# EAGLE library part D-SUB-25H (library Projekt)
Multicomp 5504F1 - Series
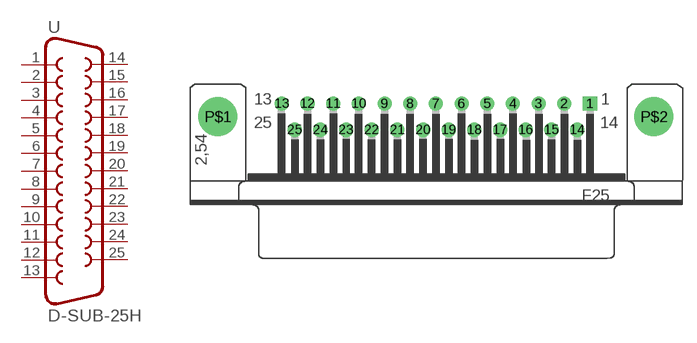
[diagram p19: symbol with the pads of F25-HORIZONTAL_2; footprint F25-HORIZONTAL_2]

Designator prefix -

## D-SUB-25H  [F25-HORIZONTAL_2]
1  1  pas
2  2  pas
3  3  pas
4  4  pas
5  5  pas
6  6  pas
7  7  pas
8  8  pas
9  9  pas
10  10  pas
11  11  pas
12  12  pas
13  13  pas
14  14  pas
15  15  pas
16  16  pas
17  17  pas
18  18  pas
19  19  pas
20  20  pas
21  21  pas
22  22  pas
23  23  pas
24  24  pas
25  25  pas

## Footprint F25-HORIZONTAL_2 (pad centres in mm)
SUB-D F25
drill 1.016 square: 1 16.62,10.92
drill 1.016 round: 2 13.85,10.92; 3 11.08,10.92; 4 8.31,10.92; 5 5.54,10.92; 6 2.77,10.92; 7 0,10.92; 8 -2.77,10.92; 9 -5.54,10.92; 10 -8.31,10.92; 11 -11.08,10.92; 12 -13.85,10.92; 13 -16.62,10.92; 14 15.235,8.08; 15 12.465,8.08; 16 9.695,8.08; 17 6.925,8.08; 18 4.155,8.08; 19 1.385,8.08; 20 -1.385,8.08; 21 -4.155,8.08; 22 -6.925,8.08; 23 -9.695,8.08; 24 -12.465,8.08; 25 -15.235,8.08
drill 3.2 round: P$1 -23.52,9.5; P$2 23.52,9.5